# EAGLE library part FT230XQ_2 (library FT230XQ)
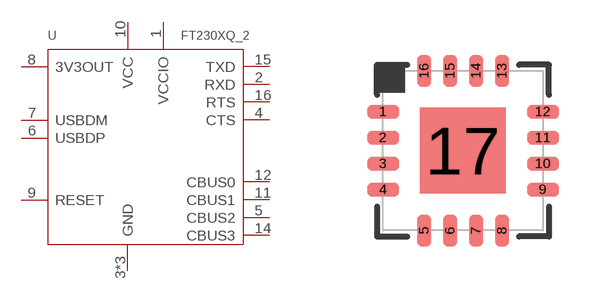
[diagram p0: symbol with the pads of QFN16; footprint QFN16]

Designator prefix U

## FT230XQ_2  [QFN16]
1  VCCIO
2  RXD
3  GND
4  CTS
5  CBUS2
6  USBDP
7  USBDM
8  3V3OUT
9  RESET
10  VCC
11  CBUS1
12  CBUS0
13  GND
14  CBUS3
15  TXD
16  RTS
17  GND

## Footprint QFN16 (pad centres in mm)
QFN 16 body 4x4mm, pitch 0.65mm
smd 0.8 x 0.35: 1 -2,0.975; 2 -2,0.325; 3 -2,-0.325; 4 -2,-0.975; 9 2,-0.975; 10 2,-0.325; 11 2,0.325; 12 2,0.975
smd 0.35 x 0.8: 5 -0.975,-2; 6 -0.325,-2; 7 0.325,-2; 8 0.975,-2; 13 0.975,2; 14 0.325,2; 15 -0.325,2; 16 -0.975,2
smd 2.15 x 2.15: 17 0,0